# Altium schematic symbol library 30R.SchLib: 1 symbol
Pins are listed as number, name and electrical type; pins without a type are passive.

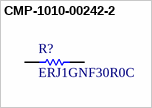
[diagram p0: symbol CMP-1010-00242-2]

## CMP-1010-00242-2
designator R?, comment ERJ1GNF30R0C
Manufacturer: Panasonic; Part Number: ERJ1GNF30R0C
footprint RESC0603X26X15NL03T05 (Chip Resistor, 2-Leads, Body 0.60x0.30mm, IPC Medium Density)
footprint RESC0603X26X15ML03T05 (Chip Resistor, 2-Leads, Body 0.60x0.30mm, IPC Low Density)
footprint RESC0603X26X15LL03T05 (Chip Resistor, 2-Leads, Body 0.60x0.30mm, IPC High Density)
pins: 1, 2
1 alternate drawing of the same symbol